# EAGLE library part APF3236LSEEZGKQBKC (library Komponenter)
APF3236LSEEZGKQBKC https://www.mouser.se/ProductDetail/604-APF3236LSEEZGKQB
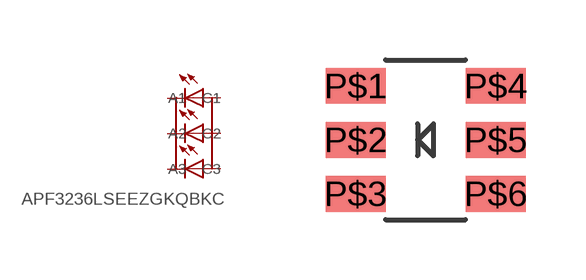
[diagram p3: symbol with the pads of APF3236LSEEZGKQBKC; footprint APF3236LSEEZGKQBKC]

Designator prefix -

## APF3236LSEEZGKQBKC  [APF3236LSEEZGKQBKC]
P$1  C1  pas
P$2  C2  pas
P$3  C3  pas
P$4  A1  pas
P$5  A2  pas
P$6  A3  pas

## Footprint APF3236LSEEZGKQBKC (pad centres in mm)
https://www.mouser.se/datasheet/2/216/APF3236LSEEZGKQBKC-786175.pdf
smd 1.5 x 0.9: P$1 -1.75,1.35; P$2 -1.75,0; P$3 -1.75,-1.35; P$4 1.75,1.35; P$5 1.75,0; P$6 1.75,-1.35